# EAGLE library part MN3009 (library ic-bbd)
256-Stage Lo Noise BBD
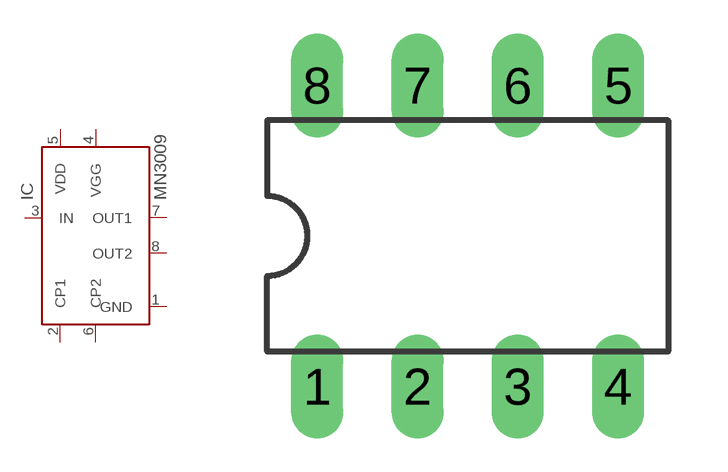
[diagram p6: symbol with the pads of DIL-08; footprint DIL-08]

Designator prefix IC

## MN3009  [DIL-08]
1  GND
2  CP1
3  IN
4  VGG
5  VDD
6  CP2
7  OUT1
8  OUT2

## Footprint DIL-08 (pad centres in mm)
Dual In Line Package
drill 0.813 long: 1 -3.81,-3.81; 2 -1.27,-3.81; 3 1.27,-3.81; 4 3.81,-3.81; 5 3.81,3.81; 6 1.27,3.81; 7 -1.27,3.81; 8 -3.81,3.81